# Altium footprint library TVGA9000.PcbLib: 2 footprints
Each footprint in its own frame and in the unit in brackets; x right, y up, seen from the top. Pads: shape width x height; smd on the part's side, far side on the other; paste and mask are expansions set on the pad; w line width, h text height; cw(c..) or ccw(c..) is an arc to the next point about the centre after c.
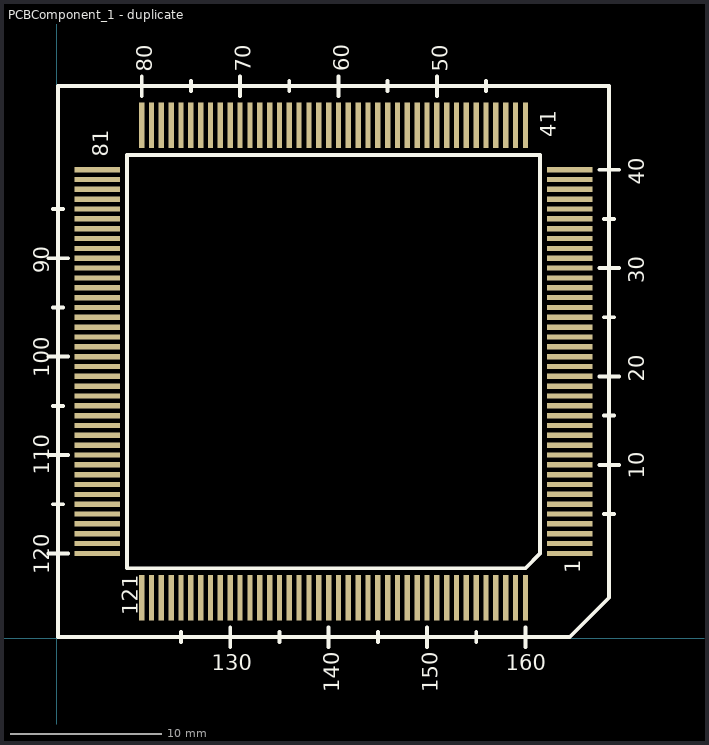
[diagram p0: the footprints below, top view; thin cyan lines are the x and y axes]

## PCBComponent_1 [mil]

## PCBComponent_1 - duplicate [mil]
pads (160):
  rect 118.1x13.8 smd mask+10: 1(1334.2,221) 2(1334.2,246.6) 3(1334.2,272.2) 4(1334.2,297.8) 5(1334.2,323.4) 6(1334.2,349) 7(1334.2,374.6) 8(1334.2,400.1) 9(1334.2,425.7) 10(1334.2,451.3) 11(1334.2,476.9) 12(1334.2,502.5) 13(1334.2,528.1) 14(1334.2,553.7) 15(1334.2,579.3) 16(1334.2,604.9) 17(1334.2,630.5) 18(1334.2,656.1) 19(1334.2,681.6) 20(1334.2,707.2) 21(1334.2,732.8) 22(1334.2,758.4) 23(1334.2,784) 24(1334.2,809.6) 25(1334.2,835.2) 26(1334.2,860.8) 27(1334.2,886.4) 28(1334.2,912) 29(1334.2,937.5) 30(1334.2,963.1) 31(1334.2,988.7) 32(1334.2,1014.3) 33(1334.2,1039.9) 34(1334.2,1065.5) 35(1334.2,1091.1) 36(1334.2,1116.7) 37(1334.2,1142.3) 38(1334.2,1167.9) 39(1334.2,1193.5) 40(1334.2,1219) 81(105.8,1219) 82(105.8,1193.4) 83(105.8,1167.8) 84(105.8,1142.2) 85(105.8,1116.6) 86(105.8,1091.1) 87(105.8,1065.5) 88(105.8,1039.9) 89(105.8,1014.3) 90(105.8,988.7) 91(105.8,963.1) 92(105.8,937.5) 93(105.8,911.9) 94(105.8,886.3) 95(105.8,860.7) 96(105.8,835.2) 97(105.8,809.6) 98(105.8,784) 99(105.8,758.4) 100(105.8,732.8) 101(105.8,707.2) 102(105.8,681.6) 103(105.8,656) 104(105.8,630.4) 105(105.8,604.8) 106(105.8,579.2) 107(105.8,553.7) 108(105.8,528.1) 109(105.8,502.5) 110(105.8,476.9) 111(105.8,451.3) 112(105.8,425.7) 113(105.8,400.1) 114(105.8,374.5) 115(105.8,348.9) 116(105.8,323.3) 117(105.8,297.8) 118(105.8,272.2) 119(105.8,246.6) 120(105.8,221)
  rect 13.8x118.1 smd mask+10: 41(1219,1334.2) 42(1193.4,1334.2) 43(1167.8,1334.2) 44(1142.2,1334.2) 45(1116.7,1334.2) 46(1091.1,1334.2) 47(1065.5,1334.2) 48(1039.9,1334.2) 49(1014.3,1334.2) 50(988.7,1334.2) 51(963.1,1334.2) 52(937.5,1334.2) 53(911.9,1334.2) 54(886.3,1334.2) 55(860.8,1334.2) 56(835.2,1334.2) 57(809.6,1334.2) 58(784,1334.2) 59(758.4,1334.2) 60(732.8,1334.2) 61(707.2,1334.2) 62(681.6,1334.2) 63(656,1334.2) 64(630.4,1334.2) 65(604.8,1334.2) 66(579.2,1334.2) 67(553.7,1334.2) 68(528.1,1334.2) 69(502.5,1334.2) 70(476.9,1334.2) 71(451.3,1334.2) 72(425.7,1334.2) 73(400.1,1334.2) 74(374.5,1334.2) 75(348.9,1334.2) 76(323.3,1334.2) 77(297.8,1334.2) 78(272.2,1334.2) 79(246.6,1334.2) 80(221,1334.2) 121(221,105.8) 122(246.6,105.8) 123(272.2,105.8) 124(297.8,105.8) 125(323.3,105.8) 126(348.9,105.8) 127(374.5,105.8) 128(400.1,105.8) 129(425.7,105.8) 130(451.3,105.8) 131(476.9,105.8) 132(502.5,105.8) 133(528.1,105.8) 134(553.7,105.8) 135(579.2,105.8) 136(604.8,105.8) 137(630.4,105.8) 138(656,105.8) 139(681.6,105.8) 140(707.2,105.8) 141(732.8,105.8) 142(758.4,105.8) 143(784,105.8) 144(809.6,105.8) 145(835.2,105.8) 146(860.7,105.8) 147(886.3,105.8) 148(911.9,105.8) 149(937.5,105.8) 150(963.1,105.8) 151(988.7,105.8) 152(1014.3,105.8) 153(1039.9,105.8) 154(1065.5,105.8) 155(1091.1,105.8) 156(1116.6,105.8) 157(1142.2,105.8) 158(1167.8,105.8) 159(1193.4,105.8) 160(1219,105.8)
Top Overlay:
  lines w10: -22.1,221 29.1,221 ; -22.1,476.9 29.1,476.9 ; -22.1,732.8 29.1,732.8 ; -22.1,988.7 29.1,988.7 ; -9.3,348.9 16.3,348.9 ; -9.3,604.8 16.3,604.8 ; -9.3,860.7 16.3,860.7 ; -9.3,1116.7 16.3,1116.7 ; 221,1410.9 221,1462.1 ; 323.3,-9.3 323.3,16.3 ; 348.9,1423.7 348.9,1449.3 ; 451.3,-22.1 451.3,29.1 ; 476.9,1410.9 476.9,1462.1 ; 579.3,-9.3 579.3,16.3 ; 604.8,1423.7 604.8,1449.3 ; 707.2,-22.1 707.2,29.1 ; 732.8,1410.9 732.8,1462.1 ; 835.2,-9.3 835.2,16.3 ; 860.7,1423.7 860.7,1449.3 ; 963.1,-22.1 963.1,29.1 ; 988.7,1410.9 988.7,1462.1 ; 1091.1,-9.3 1091.1,16.3 ; 1116.7,1423.7 1116.7,1449.3 ; 1219,-22.1 1219,29.1 ; 1410.9,451.3 1462.1,451.3 ; 1410.9,681.6 1462.1,681.6 ; 1410.9,963.1 1462.1,963.1 ; 1410.9,1219 1462.1,1219 ; 1423.7,323.3 1449.3,323.3 ; 1423.7,579.3 1449.3,579.3 ; 1423.7,835.2 1449.3,835.2 ; 1423.7,1091.1 1449.3,1091.1 ; 3.5,3.5 1334.2,3.5 1436.5,105.8 1436.5,1436.5 3.5,1436.5 3.5,3.5 ; 182.6,182.6 182.6,1257.4 1257.4,1257.4 1257.4,221 1219,182.6 182.6,182.6
  text "1" at 1362.2,169.84 h40
  text "160" at 1167.25,-83 h40
  text "40" at 1528.5,1179.86 h40
  text "10" at 1528.5,415.31 h40
  text "20" at 1528.5,668.06 h40
  text "30" at 1528.5,923.96 h40
  text "41" at 1298.2,1303.63 h40
  text "81" at 133.8,1252.43 h40
  text "121" at 210.6,60.57 h40
  text "50" at 1016.7,1474.16 h40
  text "60" at 760.8,1475.21 h40
  text "70" at 504.9,1474.16 h40
  text "80" at 249,1474.16 h40
  text "90" at -19.7,949.56 h40
  text "100" at -19.7,679 h40
  text "110" at -19.7,426.24 h40
  text "120" at -19.7,167.2 h40
  text "130" at 403.7,-83 h40
  text "140" at 735.2,-139.9 h40
  text "150" at 991.1,-139.9 h40